# Altium schematic symbol library Jumper 2.SchLib: 1 symbol
Pins are listed as number, name and electrical type; pins without a type are passive.

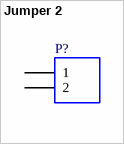
[diagram p0: symbol Jumper 2]

## Jumper 2
designator P?
Jumper / link header, 2-Pin
pins: 1, 2